# Altium schematic symbol library Sensor_MAX6682_1.Schlib: 1 symbol
Pins are listed as number, name and electrical type; pins without a type are passive.

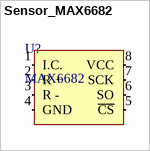
[diagram p0: symbol Sensor_MAX6682]

## Sensor_MAX6682
designator U?, comment MAX6682
Thermistor Interface; ComponentLink1Description: Datasheet; ComponentLink1URL: https://datasheets.maximintegrated.com/en/ds/MAX6682.pdf
footprint MAX6682 uMAX
pins: 1 I.C., 2 R +, 3 R -, 4 GND, 5 ~{CS}, 6 SO, 7 SCK, 8 VCC